# EAGLE library part AWHW26 (library J-IDC2.54mm)
26POS 2.52MM pitch Boxheader for IDC socktest http://assmann.us/
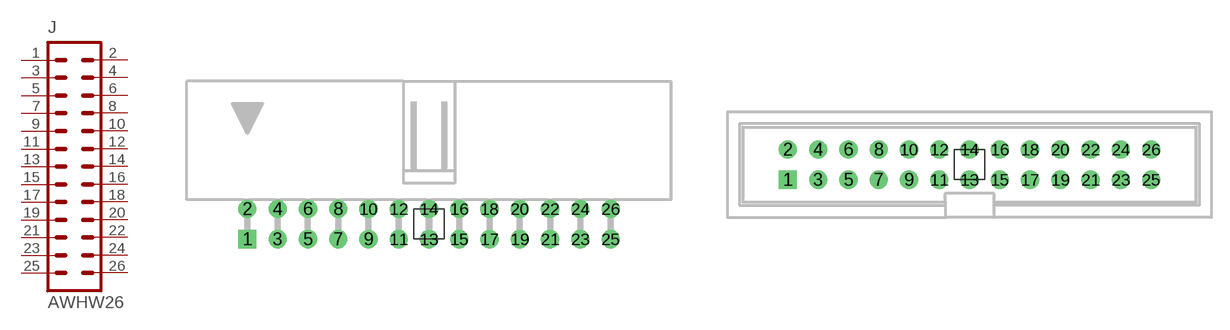
[diagram p4: symbol with the pads of 26A-0202-T-R; footprints 26A-0202-T-R, 26G-0202-T-R]

Designator prefix J

## AWHW26A-0202-T-R  [26A-0202-T-R]
1  1  pas
2  2  pas
3  3  pas
4  4  pas
5  5  pas
6  6  pas
7  7  pas
8  8  pas
9  9  pas
10  10  pas
11  11  pas
12  12  pas
13  13  pas
14  14  pas
15  15  pas
16  16  pas
17  17  pas
18  18  pas
19  19  pas
20  20  pas
21  21  pas
22  22  pas
23  23  pas
24  24  pas
25  25  pas
26  26  pas

## AWHW26G-0202-T-R  [26G-0202-T-R]
Pads as for 26A-0202-T-R

## AWHW26-G-SMD-R  [26-G-SMD-R]
Pads as for 26A-0202-T-R

## Footprint 26A-0202-T-R (pad centres in mm)
2.54MM Pitch, 1.016MM drill, diameter is auto (uses DRC restring) AWHW26A-0202-T-R
drill 1.016 square: 1 -15.24,-1.27
drill 1.016: 2 -15.24,1.27; 3 -12.7,-1.27; 4 -12.7,1.27; 5 -10.16,-1.27; 6 -10.16,1.27; 7 -7.62,-1.27; 8 -7.62,1.27; 9 -5.08,-1.27; 10 -5.08,1.27; 11 -2.54,-1.27; 12 -2.54,1.27; 13 0,-1.27; 14 0,1.27; 15 2.54,-1.27; 16 2.54,1.27; 17 5.08,-1.27; 18 5.08,1.27; 19 7.62,-1.27; 20 7.62,1.27; 21 10.16,-1.27; 22 10.16,1.27; 23 12.7,-1.27; 24 12.7,1.27; 25 15.24,-1.27; 26 15.24,1.27

## Footprint 26G-0202-T-R (pad centres in mm)
2.54MM Pitch, 1.016MM drill, diameter is auto (uses DRC restring) AWHW26G-0202-T-R
drill 1.016 square: 1 -15.24,-1.27
drill 1.016: 2 -15.24,1.27; 3 -12.7,-1.27; 4 -12.7,1.27; 5 -10.16,-1.27; 6 -10.16,1.27; 7 -7.62,-1.27; 8 -7.62,1.27; 9 -5.08,-1.27; 10 -5.08,1.27; 11 -2.54,-1.27; 12 -2.54,1.27; 13 0,-1.27; 14 0,1.27; 15 2.54,-1.27; 16 2.54,1.27; 17 5.08,-1.27; 18 5.08,1.27; 19 7.62,-1.27; 20 7.62,1.27; 21 10.16,-1.27; 22 10.16,1.27; 23 12.7,-1.27; 24 12.7,1.27; 25 15.24,-1.27; 26 15.24,1.27

## Footprint 26-G-SMD-R (pad centres in mm)
2.54MM Pitch, 3.9MM X1.02MM PAD 50% round, +/- 2.94MM offset AWHW26-G-SMD-R
smd 1.02 x 3.9: 1 -15.24,-2.94; 2 -15.24,2.94; 3 -12.7,-2.94; 4 -12.7,2.94; 5 -10.16,-2.94; 6 -10.16,2.94; 7 -7.62,-2.94; 8 -7.62,2.94; 9 -5.08,-2.94; 10 -5.08,2.94; 11 -2.54,-2.94; 12 -2.54,2.94; 13 0,-2.94; 14 0,2.94; 15 2.54,-2.94; 16 2.54,2.94; 17 5.08,-2.94; 18 5.08,2.94; 19 7.62,-2.94; 20 7.62,2.94; 21 10.16,-2.94; 22 10.16,2.94; 23 12.7,-2.94; 24 12.7,2.94; 25 15.24,-2.94; 26 15.24,2.94